# Altium footprint library TO-251AA.PcbLib: 1 footprints
Each footprint in its own frame and in the unit in brackets; x right, y up, seen from the top. Pads: shape width x height; smd on the part's side, far side on the other; paste and mask are expansions set on the pad; w line width, h text height; cw(c..) or ccw(c..) is an arc to the next point about the centre after c.
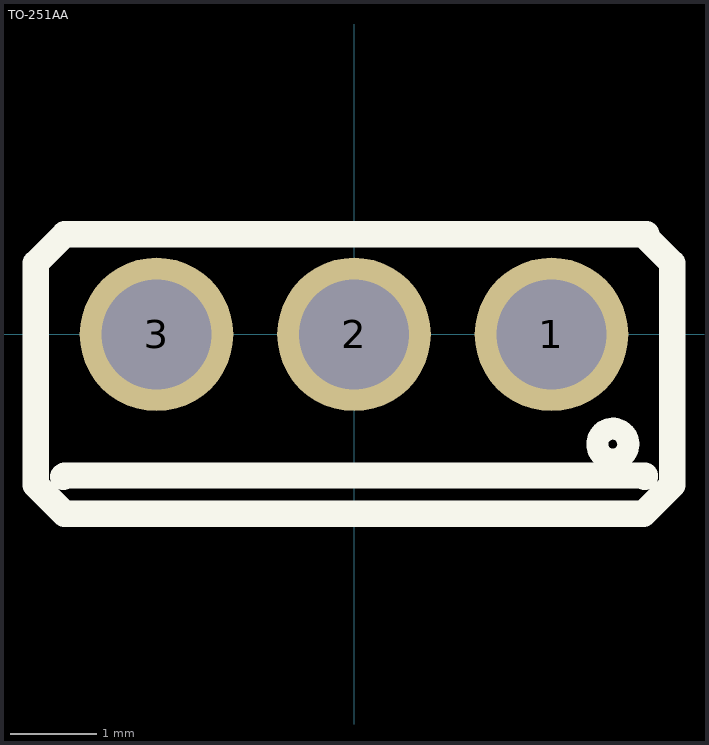
[diagram p0: the footprint, top view; thin cyan lines are the x and y axes]

## TO-251AA [mil]
pads (3):
  round 70 hole 50: 1(90,0) 2(0,0) 3(-90,0)
Top Overlay:
  circle w10: c117.93,-50 r7.07
  lines w12: -132.5,-64.9 -131.9,-64.3 132.5,-64.3 ; -131.75,45.07 -131.15,45.67 133.27,45.67 ; -107.72,45.67 -131.8,45.67 -145,32.47 -145,0 -145,-68.63 -131.9,-81.73 131.9,-81.73 145,-68.63 145,0 145,32.47 131.8,45.67 ; 131.15,45.67 131.75,45.07 ; 131.9,-64.3 132.5,-64.9
3D body: height 385, standoff 35.16, extent -127.95,-50 127.95,40.55